# Altium schematic symbol library PowerCircuit.SchLib: 12 symbols
Pins are listed as number, name and electrical type; pins without a type are passive.

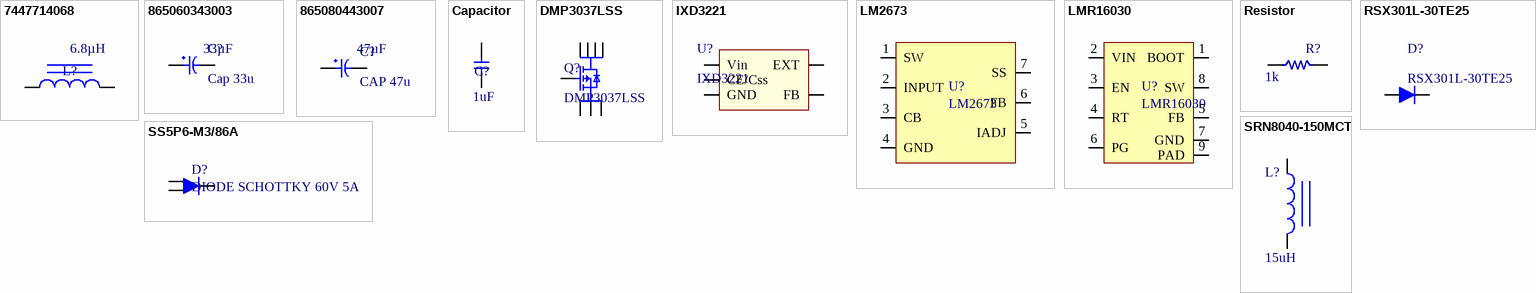
[diagram p0: symbols 7447714068 to SS5P6-M3/86A]

## 7447714068
designator L?, comment Inductance: 6.8µH  (hidden comment: FIXED IND 6.8UH 5.2A)
FIXED IND 6.8UH 5.2A 22 MOHM SMD; Manufacturer: Wurth Electronics Inc.; Manufacturer Part Number: 7447714068; Type: Wirewound; Material - Core: Ferrite; Tolerance: ±30%; Current - Saturation: 5.8A; Shielding: Shielded; DC Resistance (DCR): 22 mOhm Max; Frequency - Self Resonant: 23.5MHz; Frequency - Test: 100kHz; Supplier 1: Digi-Key; Pricing 1: 1=4.17, 10=3.651, 50=3.3904, 100=3.26, 250=3.12952 (CAD); Packaging: Cut Tape (CT); Part Status: Active; Current Rating: 5.2A; Q @ Freq: -; Ratings: -; Operating Temperature: -40°C ~ 125°C; Mounting Type: Surface Mount; Package / Case: Nonstandard; Supplier Device Package: -; Size / Dimension: 0.394" L x 0.394" W (10.00mm x 10.00mm); Height - Seated (Max): 0.197" (5.00mm); ComponentLink1URL: http://katalog.we-online.de/pbs/datasheet/7447714068.pdf; ComponentLink1Description: http://katalog.we-online.de/pbs/datasheet/7447714068.pdf; Supplier Part Number 1: 732-4108-1-ND
footprint 7447714068 (Fixed Inductor 6.8uH 5A)
pins: 0, 1

## 865060343003
designator C?, comment Cap 33u  Capacitance: 33µF
CAP 33 UF 20% 16 V; Manufacturer: Wurth Electronics Inc; Manufacturer Part Number: 865060343003; Voltage Rating: 16V; Lifetime @ Temp.: 2000 Hrs @ 105°C; Polarization: Polar; Ripple Current: 230mA @ 100kHz; Impedance: 440 mOhm; Surface Mount Land Size: 0.260" L x 0.260" W (6.60mm x 6.60mm); Supplier 1: Digi-Key; Pricing 1: 1=0.38, 50=0.3218, 100=0.2805, 250=0.24924, 500=0.2181 (CAD); Packaging: Cut Tape (CT); Part Status: Active; Tolerance: ±20%; ESR (Equivalent Series Resistance): -; Operating Temperature: -55°C ~ 105°C; Applications: General Purpose; Lead Spacing: -; Size / Dimension: 0.248" Dia (6.30mm); Height - Seated (Max): 0.217" (5.50mm); Mounting Type: Surface Mount; Package / Case: Radial, Can - SMD; ComponentLink1URL: http://katalog.we-online.de/pbs/datasheet/865060343003.pdf; ComponentLink1Description: http://katalog.we-online.de/pbs/datasheet/865060343003.pdf; Supplier Part Number 1: 732-8520-1-ND
pins: 1 pos, 2 neg

## 865080443007
designator C?, comment CAP 47u  Capacitance: 47µF
CAP 47 UF 20% 25 V; Manufacturer: Wurth Electronics Inc; Manufacturer Part Number: 865080443007; Voltage Rating: 25V; Lifetime @ Temp.: 2000 Hrs @ 105°C; Polarization: Polar; Ripple Current: 220mA @ 100kHz; Impedance: 560 mOhm; Surface Mount Land Size: 0.260" L x 0.260" W (6.60mm x 6.60mm); Supplier 1: Digi-Key; Pricing 1: 1=0.41, 50=0.3438, 100=0.2994, 250=0.26616, 500=0.23288 (CAD); Packaging: Cut Tape (CT); Part Status: Active; Tolerance: ±20%; ESR (Equivalent Series Resistance): -; Operating Temperature: -55°C ~ 105°C; Applications: General Purpose; Lead Spacing: -; Size / Dimension: 0.248" Dia (6.30mm); Height - Seated (Max): 0.217" (5.50mm); Mounting Type: Surface Mount; Package / Case: Radial, Can - SMD; ComponentLink1URL: http://katalog.we-online.de/pbs/datasheet/865080443007.pdf; ComponentLink1Description: http://katalog.we-online.de/pbs/datasheet/865080443007.pdf; Supplier Part Number 1: 732-8435-1-ND
footprint Cap 6.3mm dia 5.4mm Height
pins: 1 pos, 2 neg

## Capacitor
designator C?, comment value 1uF  (hidden comment: Generic Capacitor)
footprint 0805 (0805 SMD)
footprint 0603
footprint Cap 1210 (1210 (3225m))
pins: 1, 2

## DMP3037LSS
designator Q?
P-CHANNEL ENHANCEMENT MODE MOSFET; Supplier: Digikey; Supplier PN: DMP3037LSS-13DICT-ND
footprint SOIC-8-PP (DMP3037LSS)
pins: 1 S, 2 S, 3 S, 4 G, 5 D, 6 D, 7 D, 8 D

## IXD3221
designator U?
IC REG CTRLR BUCK SOT25; Supplier: Digikey; Supplier PN: 269-4974-1-ND
footprint SOT23-5 (SOT23, 5-Leads, Body 2.90x2.80mm, Pitch 0.95mm, IPC Medium Density)
pins: 1 CE/Css, 2 GND, 3 FB, 4 EXT, 5 Vin

## LM2673
designator U?
IC REG BUCK ADJ 3A TO263-7; Manufacturer: Texas Instruments; Manufacturer Part Number: LM2673SX-ADJ/NOPB; Function: Step-Down; Output Configuration: Positive; Output Type: Adjustable; Number of Outputs: 1; Voltage - Input (Min): 8V; Voltage - Input (Max): 40V; Voltage - Output (Min/Fixed): 1.2V; Voltage - Output (Max): 37V; Frequency - Switching: 260kHz; Synchronous Rectifier: No; Supplier 1: Digi-Key; Pricing 1: 1=7.62, 10=6.843, 100=5.6065 (CAD); Packaging: Cut Tape (CT); Part Status: Active; Topology: Buck; Current - Output: 3A; Operating Temperature: -40°C ~ 125°C (TJ); Mounting Type: Surface Mount; Package / Case: TO-263-8, D²Pak (7 Leads + Tab), TO-263CA; Supplier Device Package: DDPAK/TO-263-7; ComponentLink1URL: http://www.ti.com/lit/ds/symlink/lm2673.pdf; ComponentLink1Description: http://www.ti.com/lit/ds/symlink/lm2673.pdf; Supplier Part Number 1: LM2673SX-ADJ/NOPBCT-ND
footprint LM2673 (D2-PAK, 8-Pads,)
pins: 1 SW, 2 INPUT, 3 CB, 4 GND, 5 IADJ, 6 FB, 7 SS

## LMR16030
designator U?
IC REG BUCK ADJ 3A 8SOPWRPD; Manufacturer: Texas Instruments; Manufacturer Part Number: LMR16030PDDA; Function: Step-Down; Output Configuration: Positive; Output Type: Adjustable; Number of Outputs: 1; Voltage - Input (Min): 4.3V; Voltage - Input (Max): 60V; Voltage - Output (Min/Fixed): 0.8V; Voltage - Output (Max): 50V; Frequency - Switching: 200kHz ~ 2.5MHz; Synchronous Rectifier: No; Supplier 1: Digi-Key; Pricing 1: 1=8.44, 10=7.577, 100=6.2087, 500=5.28538, 1000=4.45755 (CAD); Packaging: Tube; Part Status: Active; Topology: Buck; Current - Output: 3A; Operating Temperature: -40°C ~ 125°C (TJ); Mounting Type: Surface Mount; Package / Case: 8-PowerSOIC (0.154", 3.90mm Width); Supplier Device Package: 8-SO PowerPad; ComponentLink1URL: http://www.ti.com/lit/ds/symlink/lmr16030.pdf; ComponentLink1Description: http://www.ti.com/lit/ds/symlink/lmr16030.pdf; Supplier Part Number 1: 296-44513-5-ND
footprint LMR16030
pins: 1 BOOT, 2 VIN, 3 EN, 4 RT, 5 FB, 6 PG, 7 GND, 8 SW, 9 PAD

## Resistor
designator R?  value 1k  (hidden comment: Resistor)
Generic Resistor
footprint 0805 (0805 SMD)
footprint AXIAL-0.5
footprint 0603
pins: 1, 2

## RSX301L-30TE25
designator D?
DIODE SCHOTTKY 30V 3A; Supplier: DigiKey; Supplier PN: RSX301L-30TE25CT-ND
footprint SMA_diode (DO-214-AC/SMA; 2 C-Bend Leads; Body 5 x 2.7 mm, inc. leads (LxW))
pins: 1, 2

## SRN8040-150MCT
designator L?, comment 15uH
INDUCTOR 15uH 2.4A 70mOHMS SMD; Supplier: DigiKey; Supplier PN: SRN8040-150MCT-ND; Value: 15uH
footprint SRN8040 (SRN8040 inductor series Bourns)
pins: 1, 2

## SS5P6-M3/86A
designator D?, comment DIODE SCHOTTKY 60V 5A
DIODE SCHOTTKY 60V 5A TO277A; Manufacturer: Vishay Semiconductor Diodes Division; Manufacturer Part Number: SS5P6-M3/86A; Voltage - Forward (Vf) (Max) @ If: 690mV @ 5A; Speed: Fast Recovery =< 500ns, > 200mA (Io); Current - Reverse Leakage @ Vr: 150µA @ 60V; Capacitance @ Vr, F: 200pF @ 4V, 1MHz; Supplier 1: Digi-Key; Pricing 1: 1=0.92, 10=0.795, 25=0.7424, 100=0.5937, 250=0.55132, 500=0.4665 (CAD); Packaging: Cut Tape (CT); Part Status: Active; Diode Type: Schottky; Voltage - DC Reverse (Vr) (Max): 60V; Current - Average Rectified (Io): 5A; Reverse Recovery Time (trr): -; Mounting Type: Surface Mount; Package / Case: TO-277, 3-PowerDFN; Supplier Device Package: TO-277A (SMPC); Operating Temperature - Junction: -55°C ~ 150°C; ComponentLink1URL: http://www.vishay.com/docs/88988/ss5p6.pdf; ComponentLink1Description: http://www.vishay.com/docs/88988/ss5p6.pdf; Supplier Part Number 1: SS5P6-M3/86AGICT-ND
footprint TO277A
pins: 1, 2, 3